# EAGLE library part MAX485ESA+ (library MAX485ESA_)
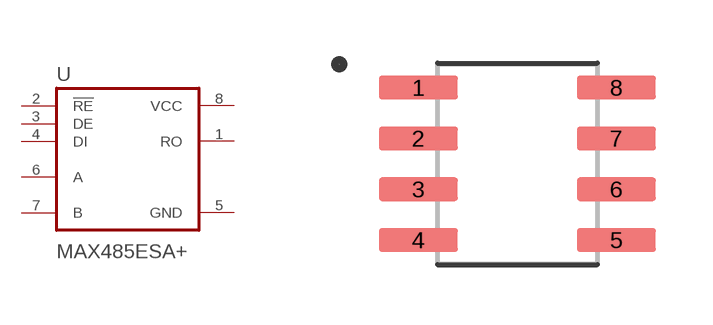
[diagram p0: symbol with the pads of SOIC127P600X175-8N; footprint SOIC127P600X175-8N]

Designator prefix U

## MAX485ESA+ (AVAILABILITY: Unavailable; DESCRIPTION: Single Transmitter/Receiver RS-422/RS-485 8-Pin SOIC N; MF: Maxim Integrated; MP: MAX485ESA+; PACKAGE: SOIC-8 Maxim; PRICE: None)  [SOIC127P600X175-8N]
1  RO  out
2  !RE  in
3  DE  in
4  DI  in
5  GND  pwr
6  A
7  B
8  VCC  pwr

## Footprint SOIC127P600X175-8N (pad centres in mm)
smd 1.97 x 0.59: 1 -2.475,1.905; 2 -2.475,0.635; 3 -2.475,-0.635; 4 -2.475,-1.905; 5 2.475,-1.905; 6 2.475,-0.635; 7 2.475,0.635; 8 2.475,1.905